# EAGLE library part ADAFRUIT-CC3000-BREAKOUT (library Net Widget)
Adafruit CC3000 Breakout Board: http://www.adafruit.com/products/1469
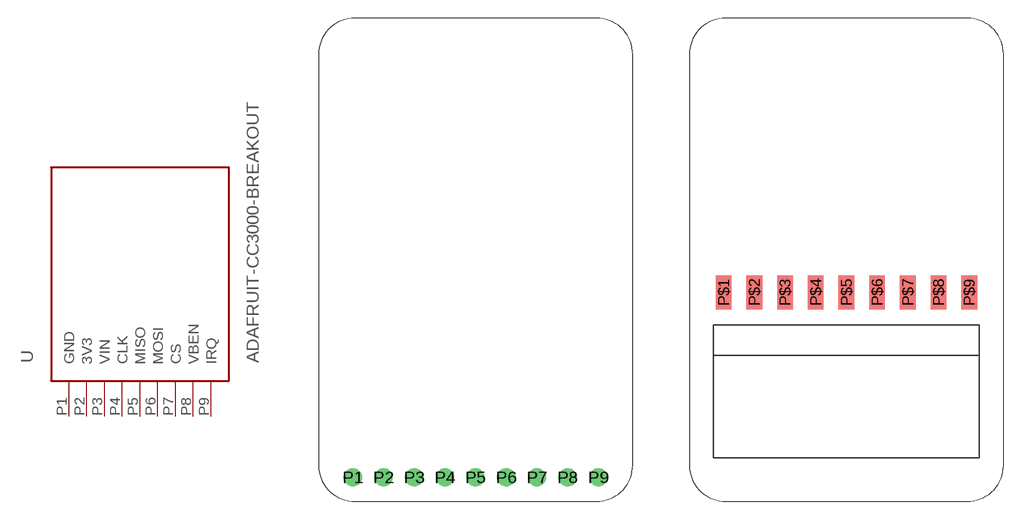
[diagram p1: symbol with the pads of ADAFRUIT-CC3000-BREAKOUT; footprints ADAFRUIT-CC3000-BREAKOUT, ADAFRUIT-CC3000-BREAKOUT-RA]

Designator prefix -

## ADAFRUIT-CC3000-BREAKOUT  [ADAFRUIT-CC3000-BREAKOUT]
P1  GND
P2  3V3
P3  VIN
P4  CLK
P5  MISO
P6  MOSI
P7  CS
P8  VBEN
P9  IRQ

## ADAFRUIT-CC3000-BREAKOUTRA  [ADAFRUIT-CC3000-BREAKOUT-RA]
P$1  GND
P$2  3V3
P$3  VIN
P$4  CLK
P$5  MISO
P$6  MOSI
P$7  CS
P$8  VBEN
P$9  IRQ

## Footprint ADAFRUIT-CC3000-BREAKOUT (pad centres in mm)
Footprint for the Adafruit CC3000 breakout board: http://www.adafruit.com/products/1469
drill 1: P1 2.84,2; P2 5.38,2; P3 7.92,2; P4 10.46,2; P5 13,2; P6 15.54,2; P7 18.08,2; P8 20.62,2; P9 23.16,2

## Footprint ADAFRUIT-CC3000-BREAKOUT-RA (pad centres in mm)
smd 1.3 x 2.8: P$1 2.84,17.3; P$2 5.38,17.3; P$3 7.92,17.3; P$4 10.46,17.3; P$5 13,17.3; P$6 15.54,17.3; P$7 18.08,17.3; P$8 20.62,17.3; P$9 23.16,17.3